# EAGLE library part TPS2511 (library TexasInstruments)
USB Dedicated Charging Port Controller and Current Limiting Power Switch Source: Datasheet <http://www.ti.com/lit/gpn/tps2511>
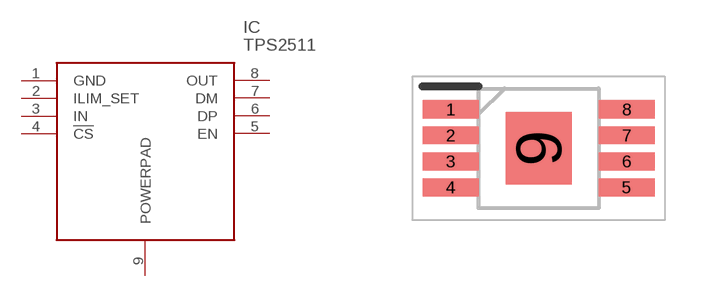
[diagram p1: symbol with the pads of SOP65P490X110-9N; footprint SOP65P490X110-9N]

Designator prefix IC

## TPS2511 (DESCRIPTION: USB Dedicated Charging Port Controller and Current Limiting Power Switch; HEIGHT: 1.1mm; MANUFACTURER_NAME: Texas Instruments; MANUFACTURER_PART_NUMBER: TPS2511DGNR; MOUSER_PART_NUMBER: 595-TPS2511DGNR; MOUSER_PRICE-STOCK: https://www.mouser.com/Search/Refine.aspx?Keyword=595-TPS2511DGNR)  [SOP65P490X110-9N]
1  GND
2  ILIM_SET
3  IN
4  !CS
5  EN
6  DP
7  DM
8  OUT
9  POWERPAD

## Footprint SOP65P490X110-9N (pad centres in mm)
DGN (S-PDSO-G8)_2
smd 1.4 x 0.45: 1 -2.2,0.975; 2 -2.2,0.325; 3 -2.2,-0.325; 4 -2.2,-0.975; 5 2.2,-0.975; 6 2.2,-0.325; 7 2.2,0.325; 8 2.2,0.975
smd 1.65 x 1.81: 9 0,0